# Altium schematic symbol library stm32h5f5ljh7q.SchLib: 1 symbol
Pins are listed as number, name and electrical type; pins without a type are passive.

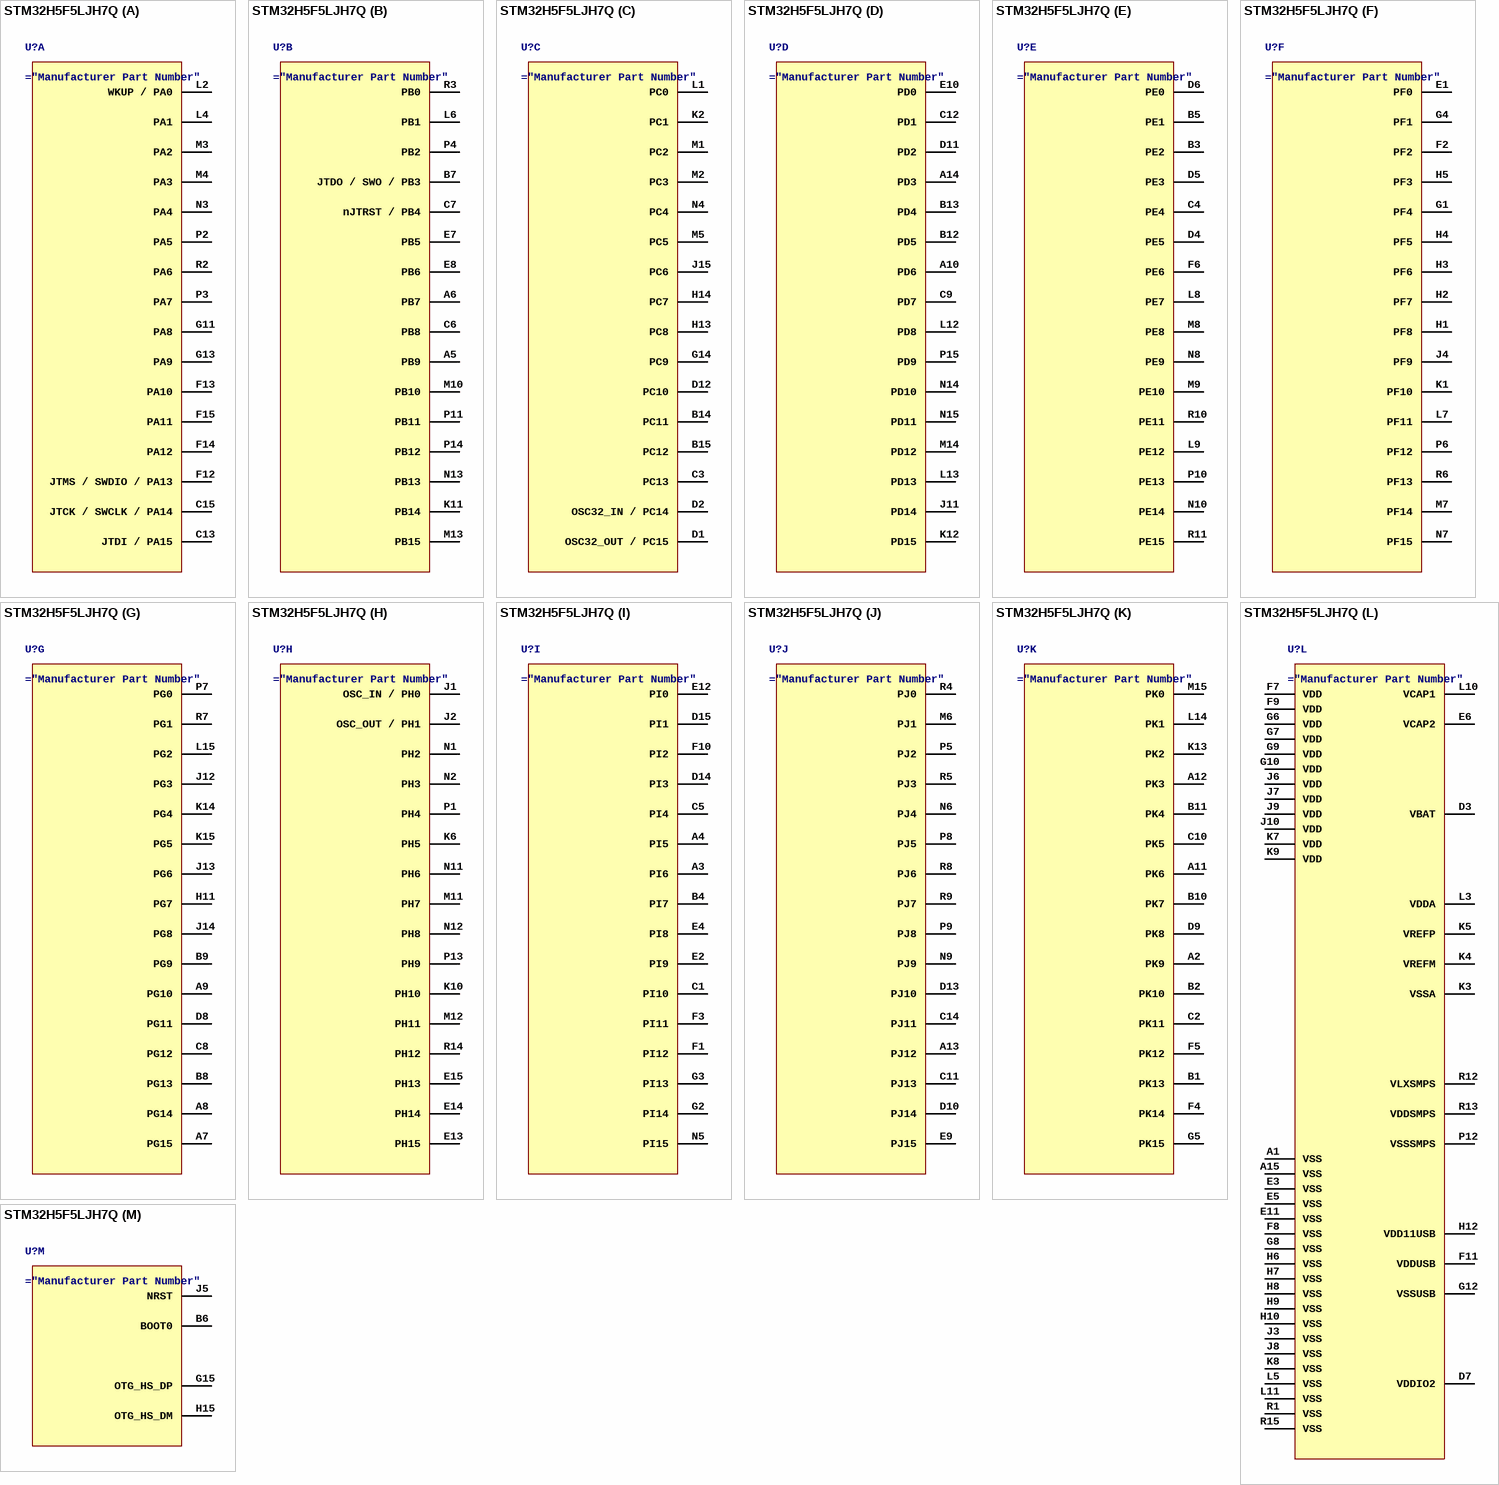
[diagram p0: symbol STM32H5F5LJH7Q]

## STM32H5F5LJH7Q
designator U?
ARM® Cortex®-M33F STM32H5 Microcontroller IC 32-Bit 250MHz 4MB (4M x 8) FLASH 225-TFBGA (13x13)
part A pins: C13 JTDI / PA15, C15 JTCK / SWCLK / PA14, F12 JTMS / SWDIO / PA13, F13 PA10, F14 PA12, F15 PA11, G11 PA8, G13 PA9, L2 WKUP / PA0, L4 PA1, M3 PA2, M4 PA3, N3 PA4, P2 PA5, P3 PA7, R2 PA6
part B pins: A5 PB9, A6 PB7, B7 JTDO / SWO / PB3, C6 PB8, C7 nJTRST / PB4, E7 PB5, E8 PB6, K11 PB14, L6 PB1, M10 PB10, M13 PB15, N13 PB13, P4 PB2, P11 PB11, P14 PB12, R3 PB0
part C pins: B14 PC11, B15 PC12, C3 PC13, D1 OSC32_OUT / PC15, D2 OSC32_IN / PC14, D12 PC10, G14 PC9, H13 PC8, H14 PC7, J15 PC6, K2 PC1, L1 PC0, M1 PC2, M2 PC3, M5 PC5, N4 PC4
part D pins: A10 PD6, A14 PD3, B12 PD5, B13 PD4, C9 PD7, C12 PD1, D11 PD2, E10 PD0, J11 PD14, K12 PD15, L12 PD8, L13 PD13, M14 PD12, N14 PD10, N15 PD11, P15 PD9
part E pins: B3 PE2, B5 PE1, C4 PE4, D4 PE5, D5 PE3, D6 PE0, F6 PE6, L8 PE7, L9 PE12, M8 PE8, M9 PE10, N8 PE9, N10 PE14, P10 PE13, R10 PE11, R11 PE15
part F pins: E1 PF0, F2 PF2, G1 PF4, G4 PF1, H1 PF8, H2 PF7, H3 PF6, H4 PF5, H5 PF3, J4 PF9, K1 PF10, L7 PF11, M7 PF14, N7 PF15, P6 PF12, R6 PF13
part G pins: A7 PG15, A8 PG14, A9 PG10, B8 PG13, B9 PG9, C8 PG12, D8 PG11, H11 PG7, J12 PG3, J13 PG6, J14 PG8, K14 PG4, K15 PG5, L15 PG2, P7 PG0, R7 PG1
part H pins: E13 PH15, E14 PH14, E15 PH13, J1 OSC_IN / PH0, J2 OSC_OUT / PH1, K6 PH5, K10 PH10, M11 PH7, M12 PH11, N1 PH2, N2 PH3, N11 PH6, N12 PH8, P1 PH4, P13 PH9, R14 PH12
part I pins: A3 PI6, A4 PI5, B4 PI7, C1 PI10, C5 PI4, D14 PI3, D15 PI1, E2 PI9, E4 PI8, E12 PI0, F1 PI12, F3 PI11, F10 PI2, G2 PI14, G3 PI13, N5 PI15
part J pins: A13 PJ12, C11 PJ13, C14 PJ11, D10 PJ14, D13 PJ10, E9 PJ15, M6 PJ1, N6 PJ4, N9 PJ9, P5 PJ2, P8 PJ5, P9 PJ8, R4 PJ0, R5 PJ3, R8 PJ6, R9 PJ7
part K pins: A2 PK9, A11 PK6, A12 PK3, B1 PK13, B2 PK10, B10 PK7, B11 PK4, C2 PK11, C10 PK5, D9 PK8, F4 PK14, F5 PK12, G5 PK15, K13 PK2, L14 PK1, M15 PK0
part L pins: A1 VSS, A15 VSS, D3 VBAT, D7 VDDIO2, E3 VSS, E5 VSS, E6 VCAP2, E11 VSS, F7 VDD, F8 VSS, F9 VDD, F11 VDDUSB, G6 VDD, G7 VDD, G8 VSS, G9 VDD, G10 VDD, G12 VSSUSB, H6 VSS, H7 VSS, H8 VSS, H9 VSS, H10 VSS, H12 VDD11USB, J3 VSS, J6 VDD, J7 VDD, J8 VSS, J9 VDD, J10 VDD, K3 VSSA, K4 VREFM, K5 VREFP, K7 VDD, K8 VSS, K9 VDD, L3 VDDA, L5 VSS, L10 VCAP1, L11 VSS, P12 VSSSMPS, R1 VSS, R12 VLXSMPS, R13 VDDSMPS, R15 VSS
part M pins: B6 BOOT0, G15 OTG_HS_DP, H15 OTG_HS_DM, J5 NRST